# EAGLE library part AS1107 (library heck)
Display driver for 7-segment numeric displays of up to 8 digits. Can also be used to control up to 64 individual LEDs. SPI interface. http://www.ams.com/eng/Products/Lighting-Management/LED-Driver-ICs/AS1107
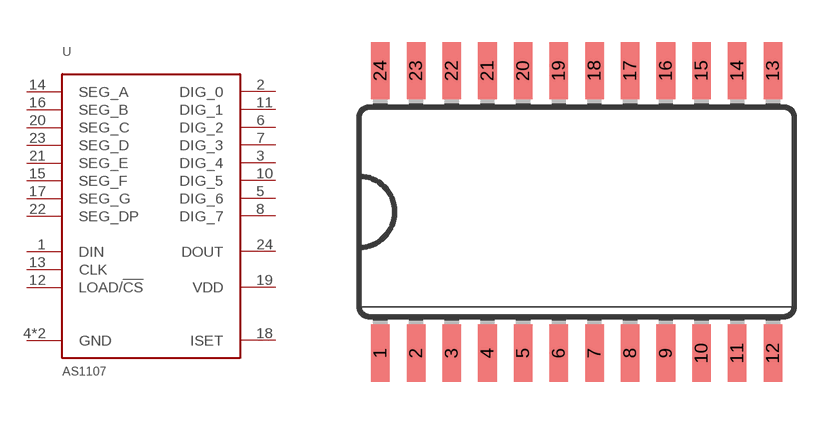
[diagram p27: symbol with the pads of SOIC-24; footprint SOIC-24]

Designator prefix -

## AS1107  [SOIC-24]
1  DIN
2  DIG_0
3  DIG_4
4  GND
5  DIG_6
6  DIG_2
7  DIG_3
8  DIG_7
9  GND
10  DIG_5
11  DIG_1
12  LOAD/!CS!
13  CLK
14  SEG_A
15  SEG_F
16  SEG_B
17  SEG_G
18  ISET
19  VDD
20  SEG_C
21  SEG_E
22  SEG_DP
23  SEG_D
24  DOUT

## Footprint SOIC-24 (pad centres in mm)
smd 0.66 x 2.032: 1 -6.985,-5.029; 2 -5.715,-5.029; 3 -4.445,-5.029; 4 -3.175,-5.029; 5 -1.905,-5.029; 6 -0.635,-5.029; 7 0.635,-5.029; 8 1.905,-5.029; 9 3.175,-5.029; 10 4.445,-5.029; 11 5.715,-5.029; 12 6.985,-5.029; 13 6.985,5.029; 14 5.715,5.029; 15 4.445,5.029; 16 3.175,5.029; 17 1.905,5.029; 18 0.635,5.029; 19 -0.635,5.029; 20 -1.905,5.029; 21 -3.175,5.029; 22 -4.445,5.029; 23 -5.715,5.029; 24 -6.985,5.029